# EAGLE library part SN74LVC3G17DCUR (library TMC5130_3D_Printer_BOARD_V_2)
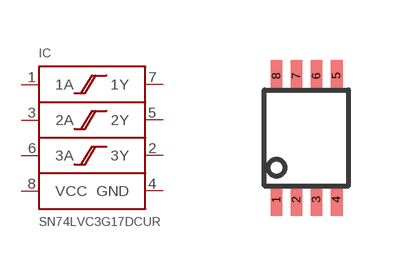
[diagram p1: symbol with the pads of US8_DCU; footprint US8_DCU]

Designator prefix IC

## SN74LVC3G17DCUR  [US8_DCU]
1  1A
2  3Y
3  2A
4  GND
5  2Y
6  3A
7  1Y
8  VCC

## Footprint US8_DCU (pad centres in mm)
smd 0.3 x 0.8: 1 -0.75,-1.55; 2 -0.25,-1.55; 3 0.25,-1.55; 4 0.75,-1.55; 5 0.75,1.55; 6 0.25,1.55; 7 -0.25,1.55; 8 -0.75,1.55